# Altium footprint library PuenteD 25A.PcbLib: 1 footprints
Each footprint in its own frame and in the unit in brackets; x right, y up, seen from the top. Pads: shape width x height; smd on the part's side, far side on the other; paste and mask are expansions set on the pad; w line width, h text height; cw(c..) or ccw(c..) is an arc to the next point about the centre after c.
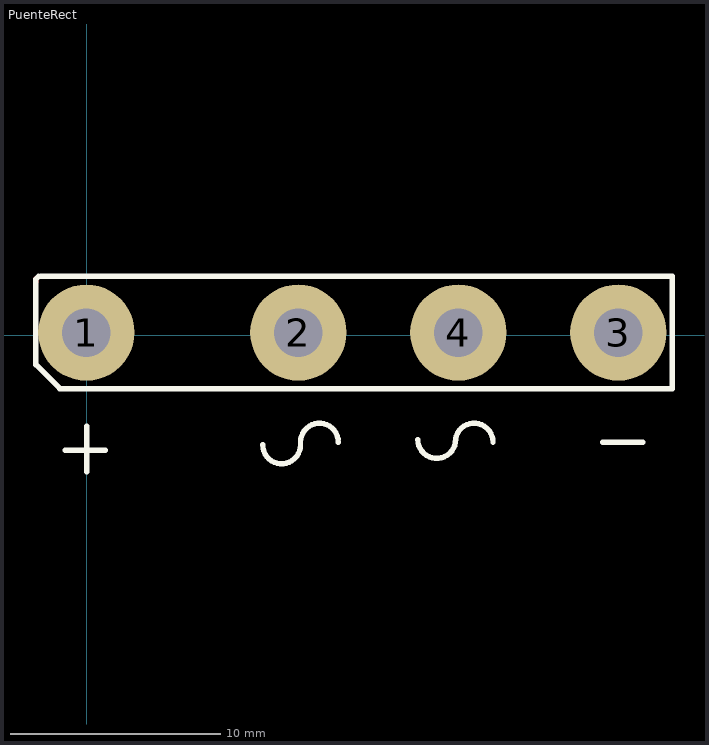
[diagram p0: the footprint, top view; thin cyan lines are the x and y axes]

## PuenteRect [mil]
pads (4):
  round 180 hole 90.55: 1(-0.52,5) 2(395.79,5) 3(994.21,5) 4(695,5)
Top Layer:
  lines w10: -95,100 -95,105
Top Overlay:
  lines w10: -95,100 -95,-55 -50,-100 1095,-100 1095,110 -85,110 ; -95,105 -90,110 ; -40,-215 35,-215 ; 0,-255 0,-170 ; 329.29,-205 ccw(c364.64,-205) 400,-205 ; 400,-200 cw(c435.36,-200) 470.71,-200 ; 619.29,-195 ccw(c654.64,-195) 690,-195 ; 689.29,-200 cw(c724.64,-200) 760,-200 ; 965,-200 1040,-200